# EAGLE library part CY8CKIT-059 (library psoc_cypress)
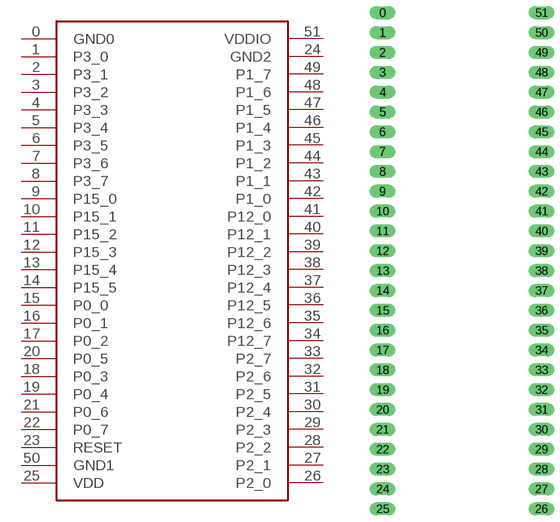
[diagram p0: symbol with the pads of CY8CKIT; footprint CY8CKIT]

Designator prefix -

## CY8CKIT-059  [CY8CKIT]
0  GND0
1  P3_0
2  P3_1
3  P3_2
4  P3_3
5  P3_4
6  P3_5
7  P3_6
8  P3_7
9  P15_0
10  P15_1
11  P15_2
12  P15_3
13  P15_4
14  P15_5
15  P0_0
16  P0_1
17  P0_2
18  P0_3
19  P0_4
20  P0_5
21  P0_6
22  P0_7
23  RESET
24  GND2
25  VDD
26  P2_0
27  P2_1
28  P2_2
29  P2_3
30  P2_4
31  P2_5
32  P2_6
33  P2_7
34  P12_7
35  P12_6
36  P12_5
37  P12_4
38  P12_3
39  P12_2
40  P12_1
41  P12_0
42  P1_0
43  P1_1
44  P1_2
45  P1_3
46  P1_4
47  P1_5
48  P1_6
49  P1_7
50  GND1
51  VDDIO

## Footprint CY8CKIT (pad centres in mm)
drill 1.1 long: 0 -10.16,31.75; 1 -10.16,29.21; 2 -10.16,26.67; 3 -10.16,24.13; 4 -10.16,21.59; 5 -10.16,19.05; 6 -10.16,16.51; 7 -10.16,13.97; 8 -10.16,11.43; 9 -10.16,8.89; 10 -10.16,6.35; 11 -10.16,3.81; 12 -10.16,1.27; 13 -10.16,-1.27; 14 -10.16,-3.81; 15 -10.16,-6.35; 16 -10.16,-8.89; 17 -10.16,-11.43; 18 -10.16,-13.97; 19 -10.16,-16.51; 20 -10.16,-19.05; 21 -10.16,-21.59; 22 -10.16,-24.13; 23 -10.16,-26.67; 24 -10.16,-29.21; 25 -10.16,-31.75; 26 10.16,-31.75; 27 10.16,-29.21; 28 10.16,-26.67; 29 10.16,-24.13; 30 10.16,-21.59; 31 10.16,-19.05; 32 10.16,-16.51; 33 10.16,-13.97; 34 10.16,-11.43; 35 10.16,-8.89; 36 10.16,-6.35; 37 10.16,-3.81; 38 10.16,-1.27; 39 10.16,1.27; 40 10.16,3.81; 41 10.16,6.35; 42 10.16,8.89; 43 10.16,11.43; 44 10.16,13.97; 45 10.16,16.51; 46 10.16,19.05; 47 10.16,21.59; 48 10.16,24.13; 49 10.16,26.67; 50 10.16,29.21; 51 10.16,31.75